# Altium footprint library parts.PCBLIB: 50 footprints (part 3 of 4)
Each footprint in its own frame and in the unit in brackets; x right, y up, seen from the top. Pads: shape width x height; smd on the part's side, far side on the other; paste and mask are expansions set on the pad; w line width, h text height; cw(c..) or ccw(c..) is an arc to the next point about the centre after c.
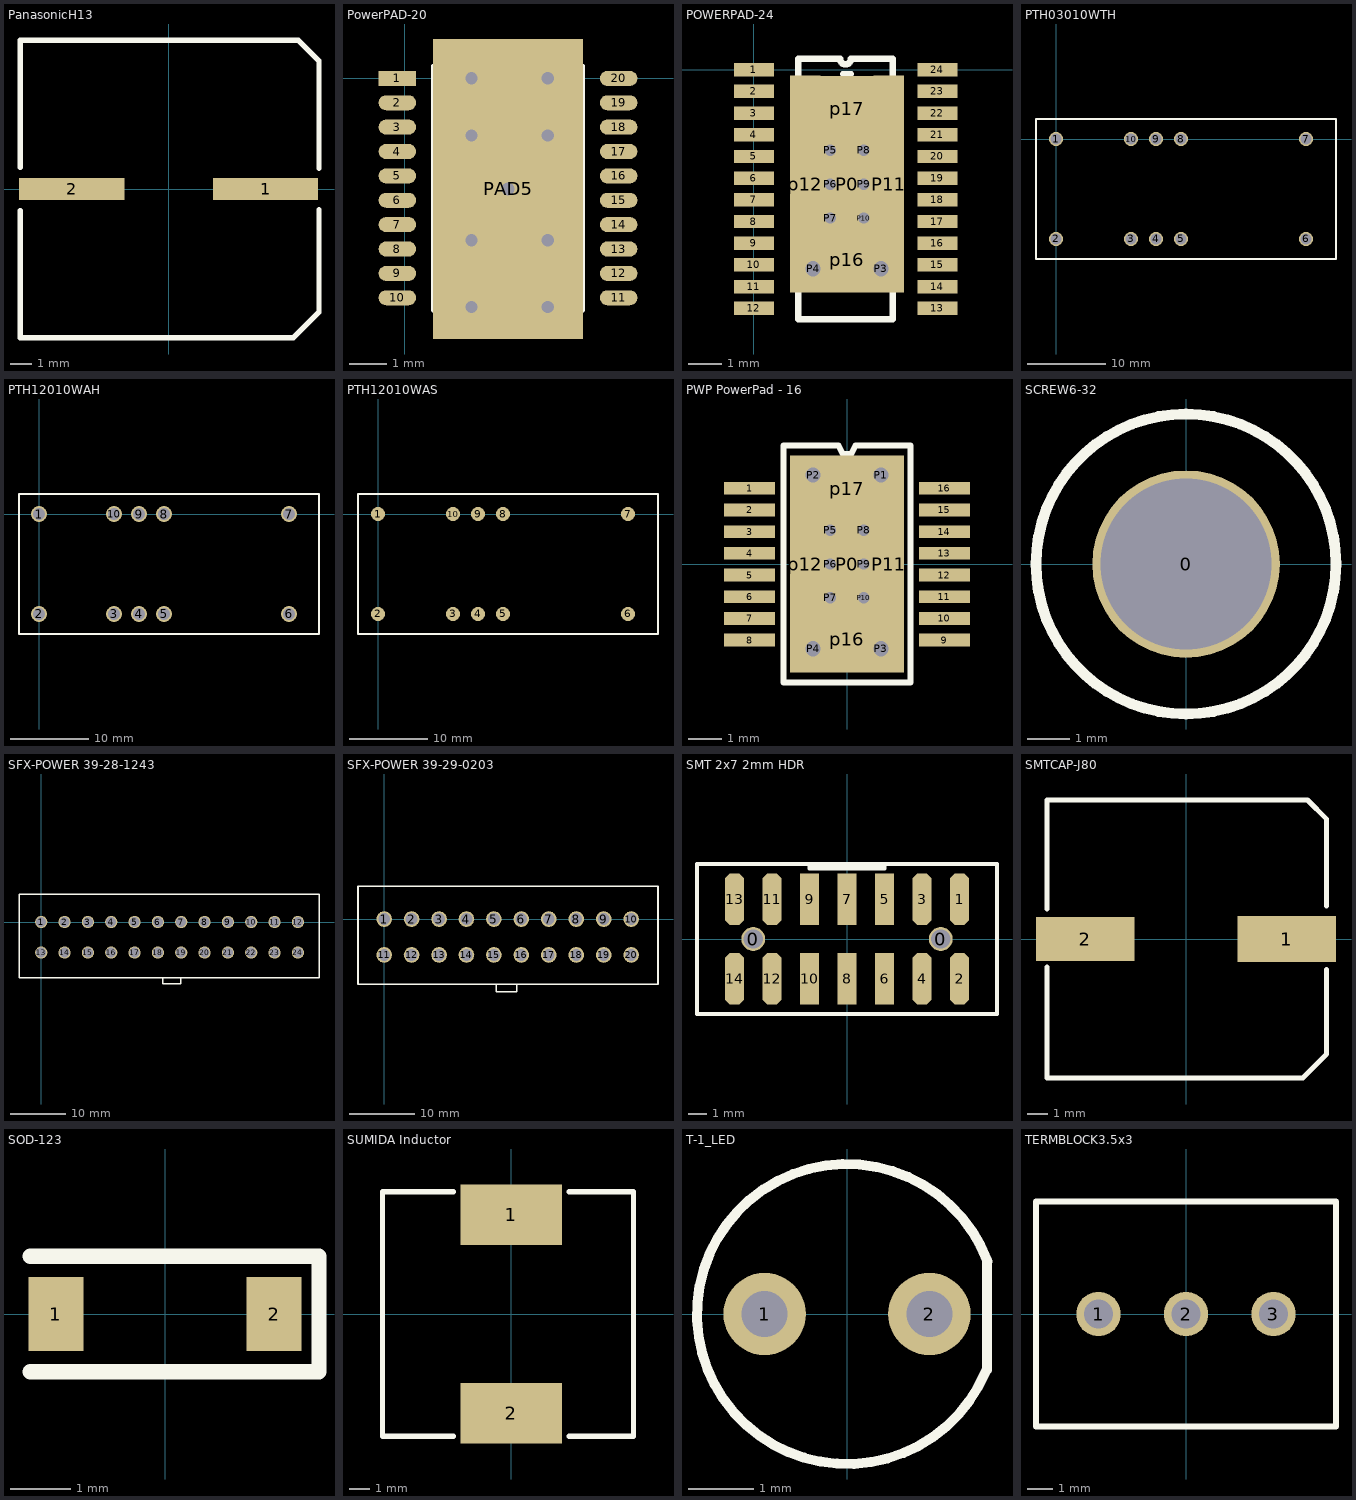
[diagram p2: the footprints below, top view; thin cyan lines are the x and y axes]

## PanasonicH13 [mm]
pads (2):
  rect 4.9x1 smd: 1(4.5,0) 2(-4.5,0)
Top Overlay:
  lines w0.254: -6.9,-1 -6.9,-6.9 5.8,-6.9 ; -6.9,1 -6.9,6.9 6.032,6.9 6.985,5.947 6.985,0.953 ; 5.397,-6.9 5.8,-6.9 ; 6.985,-0.953 6.985,-5.715 5.8,-6.9

## PowerPAD-20 [mm] "TI really tiny PowerPad"
pads (29):
  rect 1x0.4 smd: 1(-0.2,0)
  oval 1x0.4 smd: 2(-0.2,-0.65) 3(-0.2,-1.3) 4(-0.2,-1.95) 5(-0.2,-2.6) 6(-0.2,-3.25) 7(-0.2,-3.9) 8(-0.2,-4.55) 9(-0.2,-5.2) 10(-0.2,-5.85) 11(5.7,-5.85) 12(5.7,-5.2) 13(5.7,-4.55) 14(5.7,-3.9) 15(5.7,-3.25) 16(5.7,-2.6) 17(5.7,-1.95) 18(5.7,-1.3) 19(5.7,-0.65) 20(5.7,0)
  round 0.4 on Top hole 0.33: PAD0(1.778,-4.318) PAD1(1.778,-6.096) PAD2(1.778,-1.524) PAD3(3.81,-6.096) PAD4(3.81,-4.318) PAD6(3.81,0) PAD7(3.81,-1.524) PAD8(1.778,0)
  rect 4x8 on Top hole 0.343 mask-2: PAD5(2.75,-2.95)
Top Overlay:
  lines w0.15: 0.777,-6.175 4.723,-6.175 4.723,0.325 2.912,0.325 cw(c2.75,0.325) 2.588,0.325 0.777,0.325 0.777,-6.175

## POWERPAD-24 [mm]
pads (37):
  rect 1.2x0.4 smd: 1(0,0) 2(0,-0.65) 3(0,-1.3) 4(0,-1.95) 5(0,-2.6) 6(0,-3.25) 7(0,-3.9) 8(0,-4.55) 9(0,-5.2) 10(0,-5.85) 11(0,-6.5) 12(0,-7.15) 13(5.5,-7.15) 14(5.5,-6.5) 15(5.5,-5.85) 16(5.5,-5.2) 17(5.5,-4.55) 18(5.5,-3.9) 19(5.5,-3.25) 20(5.5,-2.6) 21(5.5,-1.95) 22(5.5,-1.3) 23(5.5,-0.65) 24(5.5,0)
  rect 1.575x2.565 smd paste+0 mask+0: P0(2.794,-3.429)
  round 0.508 hole 0.457 mask-0.508: P3(3.81,-5.969) P4(1.778,-5.969)
  round 0.508 hole 0.343 mask-0.508: P5(2.286,-2.413) P6(2.286,-3.429) P7(2.286,-4.445) P8(3.302,-2.413) P9(3.302,-3.429) P10(3.302,-4.445)
  rect 0.914x6.502 smd mask+0: P11(4.039,-3.429) p12(1.549,-3.429)
  rect 1.575x1.968 smd mask+0: p16(2.794,-5.69) p17(2.794,-1.168)
Top Overlay:
  lines w0.178: 2.667,-0.127 2.921,-0.127
  lines w0.2: 1.335,-7.475 1.335,0.325 2.588,0.325 ccw(c2.75,0.325) 2.912,0.325 4.165,0.325 4.165,-7.475 1.335,-7.475

## PTH03010WTH [mil] "Through-hole power module"
pads (10):
  round 70 hole 55: 1(0,0) 2(0,-500) 3(375,-500) 4(500,-500) 5(625,-500) 6(1250,-500) 7(1250,0) 8(625,0) 9(500,0) 10(375,0)
Top Overlay:
  lines w10: -100,-230 -100,-600 ; -100,-600 1400,-600 1400,100 -100,100 -100,-600

## PTH12010WAH [mil] "Through-hole power module - EUH package"
pads (10):
  round 80 hole 60: 1(0,0) 2(0,-500) 3(375,-500) 4(500,-500) 5(625,-500) 6(1250,-500) 7(1250,0) 8(625,0) 9(500,0) 10(375,0)
Top Overlay:
  lines w10: -100,-230 -100,-600 ; -100,-600 1400,-600 1400,100 -100,100 -100,-600

## PTH12010WAS [mil] "Surface-mount power module - EUJ package"
pads (10):
  round 70 smd: 1(0,0) 2(0,-500) 3(375,-500) 4(500,-500) 5(625,-500) 6(1250,-500) 7(1250,0) 8(625,0) 9(500,0) 10(375,0)
Top Overlay:
  lines w10: -100,-230 -100,-600 ; -100,-600 1400,-600 1400,100 -100,100 -100,-600

## PWP PowerPad - 16 [mil]
pads (31):
  rect 60x15 smd: 1(-115,89.4) 2(-115,63.8) 3(-115,38.2) 4(-115,12.6) 5(-115,-13) 6(-115,-38.6) 7(-115,-64.2) 8(-115,-89.8) 9(115,-89.8) 10(115,-64.2) 11(115,-38.6) 12(115,-13) 13(115,12.6) 14(115,38.2) 15(115,63.8) 16(115,89.4)
  rect 62x101 smd paste+0 mask+0: P0(0,0)
  round 20 hole 18 mask-20: P1(40,105) P2(-40,105) P3(40,-100) P4(-40,-100)
  round 20 hole 13.5 mask-20: P5(-20,40) P6(-20,0) P7(-20,-40) P8(20,40) P9(20,0) P10(20,-40)
  rect 36x256 smd mask+0: P11(49,0) p12(-49,0)
  rect 62x77.5 smd mask+0: p16(0,-89) p17(0,89)
Top Overlay:
  lines w7: -75,-140 75,-140 75,140 15,140 10,140 5,130 -5,130 -10,140 -75,140 -75,-140

## SCREW6-32 [mil] "6-32 screw"
pads (1):
  round 175 hole 160 paste-20 mask+30: 0(0,0)
Top Overlay:
  circle w10: c0,0 r140
Bottom Overlay:
  circle w10: c0,0 r140

## SFX-POWER 39-28-1243 [mm] "Molex Power connector for SFX PSU part 39-28-1243"
pads (24):
  round 2.2 hole 1.8: 1(0,0) 2(4.2,0) 3(8.4,0) 4(12.6,0) 5(16.8,0) 6(21,0) 7(25.2,0) 8(29.4,0) 9(33.6,0) 10(37.8,0) 11(42,0) 12(46.2,0) 13(0,-5.5) 14(4.2,-5.5) 15(8.4,-5.5) 16(12.6,-5.5) 17(16.8,-5.5) 18(21,-5.5) 19(25.2,-5.5) 20(29.4,-5.5) 21(33.6,-5.5) 22(37.8,-5.5) 23(42,-5.5) 24(46.2,-5.5)
Top Overlay:
  lines w0.254: 21.907,-10 21.907,-11.112 25.082,-11.112 25.082,-10 ; -4,-10 -4,5 50,5 50,-10 -4,-10

## SFX-POWER 39-29-0203 [mm] "ATX/SFX power connector, 20 pin version"
pads (20):
  round 2.4 hole 1.8: 1(0,0) 2(4.2,0) 3(8.4,0) 4(12.6,0) 5(16.8,0) 6(21,0) 7(25.2,0) 8(29.4,0) 9(33.6,0) 10(37.8,0) 11(0,-5.5) 12(4.2,-5.5) 13(8.4,-5.5) 14(12.6,-5.5) 15(16.8,-5.5) 16(21,-5.5) 17(25.2,-5.5) 18(29.4,-5.5) 19(33.6,-5.5) 20(37.8,-5.5)
Top Overlay:
  lines w0.254: 17.145,-10 17.145,-11.112 20.32,-11.112 20.32,-10 ; -4,-10 -4,5 41.91,5 41.91,-10 -4,-10

## SMT 2x7 2mm HDR [mm] "SMT dual-row 14-pin SMT header with posts, like Molex 87832-1420"
pads (16):
  round 1.27 hole 1.016: 0(-5,0) 0(5,0)
  oct 1x2.75 smd: 1(6,2.125) 2(6,-2.125) 3(4,2.125) 4(4,-2.125) 11(-4,2.125) 12(-4,-2.125) 13(-6,2.125) 14(-6,-2.125)
  rect 1x2.75 smd: 5(2,2.125) 6(2,-2.125) 7(0,2.125) 8(0,-2.125) 9(-2,2.125) 10(-2,-2.125)
Top Overlay:
  rectangle: -2,3.75 2,4
  lines w0.203: -1.75,3.75 -2,4 -2,3.75 2,3.75 2,4 1.75,3.75 ; -8,-4 8,-4 8,4 -8,4 -8,-4

## SMTCAP-J80 [mm]
pads (2):
  rect 4.9x2.28 smd: 1(5,0)
  rect 4.9x2.2 smd: 2(-5,0)
Top Overlay:
  lines w0.254: -6.9,-1.397 -6.9,-6.9 5.8,-6.9 ; -6.9,1.5 -6.9,6.9 6.032,6.9 6.985,5.947 6.985,1.651 ; 5.397,-6.9 5.8,-6.9 ; 6.985,-1.524 6.985,-5.715 5.8,-6.9

## SOD-123 [mm]
pads (2):
  rect 0.91x1.22 smd: 1(-1.8,0) 2(1.8,0)
Top Overlay:
  lines w0.254: -2.222,-0.953 2.54,-0.953 2.54,0.953 -2.222,0.953

## SUMIDA Inductor [mm] "Sumida inductor format"
pads (2):
  rect 5x3 smd: 1(0,4.9) 2(0,-4.9)
Top Overlay:
  lines w0.254: -2.857,-6.032 -6.35,-6.032 -6.35,6.032 -2.857,6.032 ; 2.857,-6.032 6.032,-6.032 6.032,6.032 2.857,6.032

## T-1_LED [mil]
pads (2):
  round 50 hole 28: 1(-50,0) 2(50,0)
Top Overlay:
  lines w6: 83.98,-35.07 cw(c0,0) 85.21,31.95 ; 85,-34 85,32.05

## TERMBLOCK3.5x3 [mil]
pads (3):
  round 70 hole 46: 1(-137.79,0) 2(0,0) 3(137.79,0)
Top Overlay:
  lines w10: -236.22,-177.16 236.22,-177.16 236.22,0 236.22,177.16 -236.22,177.16 -236.22,-177.16